# Altium schematic symbol library Schlib1.SchLib: 3 symbols
Pins are listed as number, name and electrical type; pins without a type are passive.

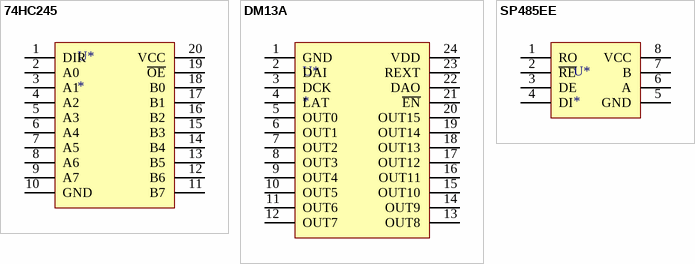
[diagram p0: symbols 74HC245 to SP485EE]

## 74HC245
designator U*
footprint SSOP20_L (7.2*7.8*1.6（长宽高）)
pins: 1 DIR, 2 A0, 3 A1, 4 A2, 5 A3, 6 A4, 7 A5, 8 A6, 9 A7, 10 GND, 11 B7, 12 B6, 13 B5, 14 B4, 15 B3, 16 B2, 17 B1, 18 B0, 19 ~{OE}, 20 VCC

## DM13A
designator U*
footprint TSSOP24_M (7.8*6.4*1mm（长宽高）)
pins: 1 GND, 2 DAI, 3 DCK, 4 LAT, 5 OUT0, 6 OUT1, 7 OUT2, 8 OUT3, 9 OUT4, 10 OUT5, 11 OUT6, 12 OUT7, 13 OUT8, 14 OUT9, 15 OUT10, 16 OUT11, 17 OUT12, 18 OUT13, 19 OUT14, 20 OUT15, 21 ~{EN}, 22 DAO, 23 REXT, 24 VDD

## SP485EE
designator U*
footprint SOP8_L (5*6*1.8mm（长宽高）)
pins: 1 RO, 2 ~{RE}, 3 DE, 4 DI, 5 GND, 6 A, 7 B, 8 VCC